# EAGLE library part L298 (library _RoweTel)
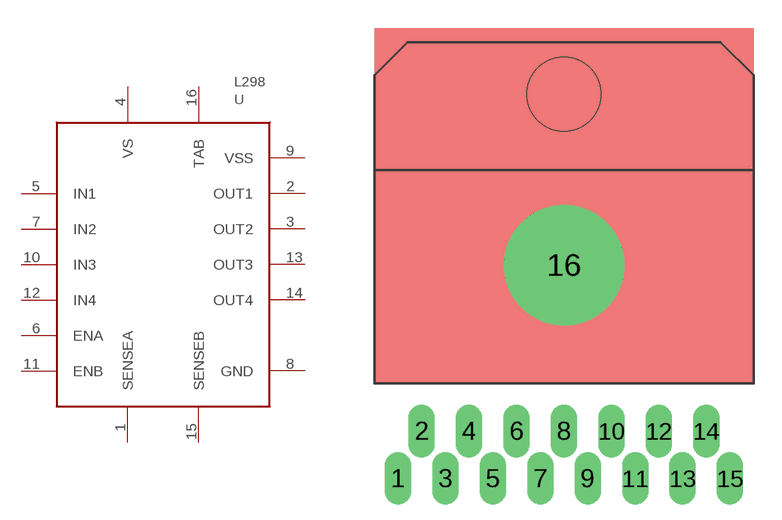
[diagram p16: symbol with the pads of MULTIWATT15H; footprint MULTIWATT15H]

Designator prefix U

## L298  [MULTIWATT15H]
1  SENSEA
2  OUT1
3  OUT2
4  VS
5  IN1
6  ENA
7  IN2
8  GND
9  VSS
10  IN3
11  ENB
12  IN4
13  OUT3
14  OUT4
15  SENSEB
16  TAB

## Footprint MULTIWATT15H (pad centres in mm)
drill 0.9 pad 1.27 long: 1 -8.89,0; 2 -7.62,2.54; 3 -6.35,0; 4 -5.08,2.54; 5 -3.81,0; 6 -2.54,2.54; 7 -1.27,0; 8 0,2.54; 9 1.27,0; 10 2.54,2.54; 11 3.81,0; 12 5.08,2.54; 13 6.35,0; 14 7.62,2.54; 15 8.89,0
drill 2 pad 6.452: 16 0,11.43
hole 3.962 at 0,20.574